# Altium footprint library KRL3216T4A-M-R002-G-T5.PcbLib: 1 footprints
Each footprint in its own frame and in the unit in brackets; x right, y up, seen from the top. Pads: shape width x height; smd on the part's side, far side on the other; paste and mask are expansions set on the pad; w line width, h text height; cw(c..) or ccw(c..) is an arc to the next point about the centre after c.
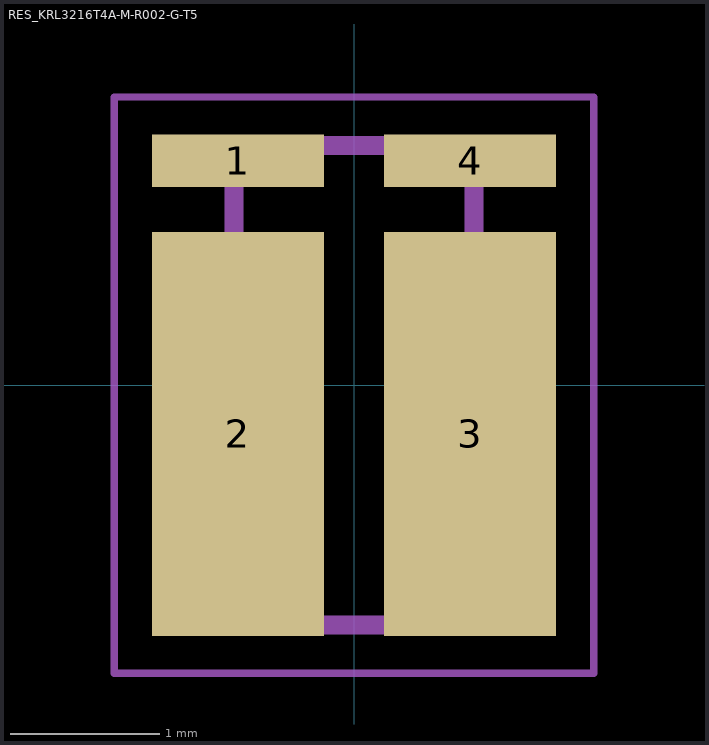
[diagram p0: the footprint, top view; thin cyan lines are the x and y axes]

## RES_KRL3216T4A-M-R002-G-T5 [mm]
pads (4):
  rect 1.15x0.35 smd: 1(-0.775,1.5) 4(0.775,1.5)
  rect 1.15x2.7 smd: 2(-0.775,-0.325) 3(0.775,-0.325)
Mechanical 13:
  lines w0.127: -0.8,-1.6 0.8,-1.6 0.8,1.6 -0.8,1.6 -0.8,-1.6
Mechanical 15:
  lines w0.05: -1.6,-1.925 -1.6,1.925 1.6,1.925 1.6,-1.925 -1.6,-1.925